# Altium footprint library UltraZohm_Analog_BreakoutBoard.PcbLib: 8 footprints
Each footprint in its own frame and in the unit in brackets; x right, y up, seen from the top. Pads: shape width x height; smd on the part's side, far side on the other; paste and mask are expansions set on the pad; w line width, h text height; cw(c..) or ccw(c..) is an arc to the next point about the centre after c.
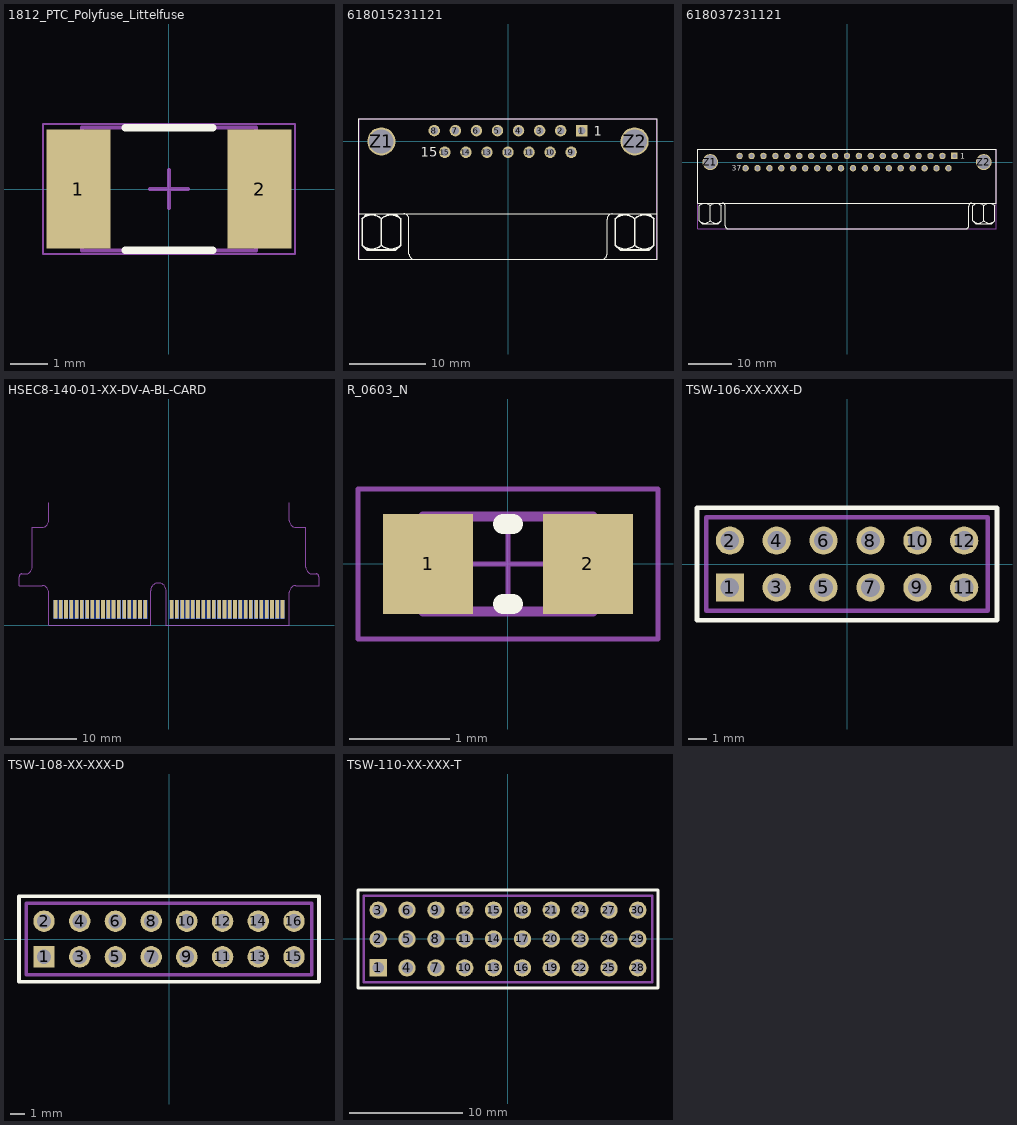
[diagram p0: the footprints below, top view; thin cyan lines are the x and y axes]

## 1812_PTC_Polyfuse_Littelfuse [mm] "Chip Fuse, 2-Leads, Body 4.6x3.24mm"
height 1.6
pads (2):
  rect 1.68x3.14 smd: 1(-2.39,0) 2(2.39,0)
Top Overlay:
  lines w0.2: -1.15,-1.62 1.15,-1.62 ; -1.15,1.62 1.15,1.62
Mechanical 5:
  lines w0.1: -2.3,-1.62 -2.3,1.62 2.3,1.62 2.3,-1.62 -2.3,-1.62
  text ".Designator" at -0.901,-0.725 h1.52
Mechanical 15:
  lines w0.05: -3.33,-1.72 3.33,-1.72 3.33,1.72 -3.33,1.72 -3.33,-1.72
  lines w0.1: -0.5,0 0.5,0 ; 0,-0.5 0,0.5
3D body "mf-msmf110_24x.stp": height 1.15, standoff 0, extent -2.3,-1.62 2.3,1.62

## 618015231121 [mm] "15 pins, right angled, 8.08mm, with hex screw"
height 12.5
pads (17):
  rect 1.5x1.5 hole 1: 1(9.695,1.42)
  round 1.5 hole 1: 2(6.925,1.42) 3(4.155,1.42) 4(1.385,1.42) 5(-1.385,1.42) 6(-4.155,1.42) 7(-6.925,1.42) 8(-9.695,1.42) 9(8.31,-1.42) 10(5.54,-1.42) 11(2.77,-1.42) 12(0,-1.42) 13(-2.77,-1.42) 14(-5.54,-1.42) 15(-8.31,-1.42)
  round 3.7 hole 3.2: Z1(-16.65,0) Z2(16.65,0)
Top Overlay:
  lines w0.127: -13.715,-9.505 cw(c-13.715,-10.2) -13.02,-10.2 -13.02,-14.8 ; -13.015,-14.805 ccw(c-12.32,-14.805) -12.32,-15.5 12.32,-15.5 ccw(c12.32,-14.805) 13.015,-14.805 ; 13.02,-14.8 13.02,-10.2 cw(c13.715,-10.2) 13.715,-9.505 ; -19.6,-15.5 -19.6,-9.5 ; -19.6,-15.5 19.6,-15.5 ; -19.6,-15.5 -19.6,3 ; -19.6,-15.5 19.6,-15.5 ; -19.6,-9.5 19.6,-9.5 ; -19.6,-9.5 -19.6,3 ; -19.6,3 19.6,3 ; -19.6,3 19.6,3 ; 19.6,-15.5 19.6,-9.5 ; 19.6,-15.5 19.6,3 ; 19.6,-9.5 19.6,3
  lines w0.2: -19.192,-13.635 -18.557,-14.27 -14.747,-14.27 -14.112,-13.635 -14.112,-10.179 -14.747,-9.544 ; -19.192,-13.62 -19.192,-10.179 -18.557,-9.544 ; -19.192,-12.568 -19.192,-12.356 ; -16.652,-13.62 -16.652,-10.179 ; 14.108,-13.635 14.743,-14.27 18.553,-14.27 19.188,-13.635 19.188,-10.179 18.553,-9.544 ; 14.108,-13.62 14.108,-10.179 14.743,-9.544 ; 14.108,-12.568 14.108,-12.356 ; 16.648,-13.62 16.648,-10.179
  lines w0.203: -19.194,-10.177 cw(c-17.922,-11.449) -16.65,-10.177 ; -19.192,-13.62 ccw(c-17.92,-12.348) -16.648,-13.62 ; -16.657,-13.62 ccw(c-15.384,-12.348) -14.112,-13.62 ; -16.654,-10.177 cw(c-15.382,-11.449) -14.11,-10.177 ; 14.106,-10.177 cw(c15.378,-11.449) 16.65,-10.177 ; 14.108,-13.62 ccw(c15.38,-12.348) 16.652,-13.62 ; 16.643,-13.62 ccw(c17.916,-12.348) 19.188,-13.62 ; 16.646,-10.177 cw(c17.918,-11.449) 19.19,-10.177
  text "15" at -11.5,-2 h1.27
  text "1" at 11.25,0.75 h1.27
Mechanical 5:
  lines w0.127: -19.558,-15.5 -19.558,3 19.558,3 19.558,-15.5 -19.558,-15.5
  text ".Designator" at -1.028,-6.186 h1.52
3D body "618015231121.stp": height 12.51, standoff -3.17, extent -19.6,-15.5 19.6,3

## 618037231121 [mm] "37 pins, right angled, 8.08mm, with hex screw"
height 12.5
pads (39):
  rect 1.5x1.5 hole 1: 1(24.93,1.42)
  round 1.5 hole 1: 2(22.16,1.42) 3(19.39,1.42) 4(16.62,1.42) 5(13.85,1.42) 6(11.08,1.42) 7(8.31,1.42) 8(5.54,1.42) 9(2.77,1.42) 10(0,1.42) 11(-2.77,1.42) 12(-5.54,1.42) 13(-8.31,1.42) 14(-11.08,1.42) 15(-13.85,1.42) 16(-16.62,1.42) 17(-19.39,1.42) 18(-22.16,1.42) 19(-24.93,1.42) 20(23.545,-1.42) 21(20.775,-1.42) 22(18.005,-1.42) 23(15.235,-1.42) 24(12.465,-1.42) 25(9.695,-1.42) 26(6.925,-1.42) 27(4.155,-1.42) 28(1.385,-1.42) 29(-1.385,-1.42) 30(-4.155,-1.42) 31(-6.925,-1.42) 32(-9.695,-1.42) 33(-12.465,-1.42) 34(-15.235,-1.42) 35(-18.005,-1.42) 36(-20.775,-1.42) 37(-23.545,-1.42)
  round 3.7 hole 3.2: Z1(-31.75,0) Z2(31.75,0)
Top Overlay:
  lines w0.127: -28.95,-9.505 cw(c-28.95,-10.2) -28.255,-10.2 -28.255,-14.8 ; -28.25,-14.805 ccw(c-27.555,-14.805) -27.555,-15.5 27.555,-15.5 ccw(c27.555,-14.805) 28.25,-14.805 ; 28.255,-14.8 28.255,-10.2 cw(c28.95,-10.2) 28.95,-9.505 ; -34.7,-9.5 34.7,-9.5 34.7,3 -34.7,3 -34.7,-9.5
  lines w0.2: -34.292,-13.635 -33.657,-14.27 -29.847,-14.27 -29.212,-13.635 -29.212,-10.179 -29.847,-9.544 ; -34.292,-13.62 -34.292,-10.179 -33.657,-9.544 ; -34.292,-12.568 -34.292,-12.356 ; -31.752,-13.62 -31.752,-10.179 ; 29.208,-13.635 29.843,-14.27 33.653,-14.27 34.288,-13.635 34.288,-10.179 33.653,-9.544 ; 29.208,-13.62 29.208,-10.179 29.843,-9.544 ; 29.208,-12.568 29.208,-12.356 ; 31.748,-13.62 31.748,-10.179
  lines w0.203: -34.294,-10.177 cw(c-33.022,-11.449) -31.75,-10.177 ; -34.292,-13.62 ccw(c-33.02,-12.348) -31.748,-13.62 ; -31.757,-13.62 ccw(c-30.484,-12.348) -29.212,-13.62 ; -31.754,-10.177 cw(c-30.482,-11.449) -29.21,-10.177 ; 29.206,-10.177 cw(c30.478,-11.449) 31.75,-10.177 ; 29.208,-13.62 ccw(c30.48,-12.348) 31.752,-13.62 ; 31.743,-13.62 ccw(c33.016,-12.348) 34.288,-13.62 ; 31.746,-10.177 cw(c33.018,-11.449) 34.29,-10.177
  text "37" at -26.75,-2 h1.27
  text "1" at 26.25,0.75 h1.27
Mechanical 5:
  lines w0.127: -34.7,-15.5 34.7,-15.5 34.7,3 -34.7,3 -34.7,-15.5
  text ".Designator" at -2.044,-6.313 h1.52
3D body "618037231121.stp": height 12.51, standoff -3.17, extent -34.7,-15.5 34.7,3

## HSEC8-140-01-XX-DV-A-BL-CARD [mm]
height 0.8
pads (80):
  rect 0.55x2.8 smd far side mask+0.05: 1(17.2,2.4) 3(16.4,2.4) 5(15.6,2.4) 7(14.8,2.4) 9(14,2.4) 11(13.2,2.4) 13(12.4,2.4) 15(11.6,2.4) 17(10.8,2.4) 19(10,2.4) 21(9.2,2.4) 23(8.4,2.4) 25(7.6,2.4) 27(6.8,2.4) 29(6,2.4) 31(5.2,2.4) 33(4.4,2.4) 35(3.6,2.4) 37(2.8,2.4) 39(2,2.4) 41(1.2,2.4) 43(0.4,2.4) 45(-3.6,2.4) 47(-4.4,2.4) 49(-5.2,2.4) 51(-6,2.4) 53(-6.8,2.4) 55(-7.6,2.4) 57(-8.4,2.4) 59(-9.2,2.4) 61(-10,2.4) 63(-10.8,2.4) 65(-11.6,2.4) 67(-12.4,2.4) 69(-13.2,2.4) 71(-14,2.4) 73(-14.8,2.4) 75(-15.6,2.4) 77(-16.4,2.4) 79(-17.2,2.4)
  rect 0.55x2.8 smd mask+0.05: 2(17.2,2.4) 4(16.4,2.4) 6(15.6,2.4) 8(14.8,2.4) 10(14,2.4) 12(13.2,2.4) 14(12.4,2.4) 16(11.6,2.4) 18(10.8,2.4) 20(10,2.4) 22(9.2,2.4) 24(8.4,2.4) 26(7.6,2.4) 28(6.8,2.4) 30(6,2.4) 32(5.2,2.4) 34(4.4,2.4) 36(3.6,2.4) 38(2.8,2.4) 40(2,2.4) 42(1.2,2.4) 44(0.4,2.4) 46(-3.6,2.4) 48(-4.4,2.4) 50(-5.2,2.4) 52(-6,2.4) 54(-6.8,2.4) 56(-7.6,2.4) 58(-8.4,2.4) 60(-9.2,2.4) 62(-10,2.4) 64(-10.8,2.4) 66(-11.6,2.4) 68(-12.4,2.4) 70(-13.2,2.4) 72(-14,2.4) 74(-14.8,2.4) 76(-15.6,2.4) 78(-16.4,2.4) 80(-17.2,2.4)
Mechanical 16:
  lines w0.025: -18.225,18.566 -18.225,15.84 cw(c-19.225,15.84) -19.225,14.84 -20.725,14.84 -20.725,8.78 cw(c-21.725,8.78) -21.725,7.78 -22.325,7.78 ccw(c-22.325,7.38) -22.725,7.38 -22.725,6 -19.225,6 cw(c-19.225,5) -18.225,5 -18.225,0.779 -18.225,0 -2.8,0 -2.8,0.779 -2.8,5.2 cw(c-1.6,5.2) -0.4,5.2 -0.4,0.779 -0.4,0 18.225,0 18.225,0.779 18.225,5 cw(c19.225,5) 19.225,6 22.725,6 22.725,7.38 ccw(c22.325,7.38) 22.325,7.78 21.725,7.78 cw(c21.725,8.78) 20.725,8.78 20.725,14.84 19.225,14.84 cw(c19.225,15.84) 18.225,15.84 18.225,18.566

## R_0603_N [mm] "SMD Resistor, Body 1.6x0.8mm, IPC Medium Density"
height 0.6
pads (2):
  rect 0.9x1 smd: 1(-0.8,0) 2(0.8,0)
Top Overlay:
  lines w0.2: -0.05,-0.4 0.05,-0.4 ; -0.05,0.4 0.05,0.4
Mechanical 5:
  lines w0.1: -0.85,-0.475 -0.85,0.475 0.85,0.475 0.85,-0.475 -0.85,-0.475
  text ".Designator" at -1,0.8 h0.76
Mechanical 15:
  lines w0.05: -0.475,0 0.475,0 ; 0,-0.475 0,0.475 ; -1.5,-0.75 -1.5,0.75 1.5,0.75 1.5,-0.75 -1.5,-0.75
3D body: height 0.6, standoff 0, extent 0.581,-0.474 0.85,0.475
3D body: height 0.6, standoff 0, extent -0.58,-0.474 0.581,0.475
3D body: height 0.6, standoff 0, extent -0.849,-0.474 -0.58,0.475

## TSW-106-XX-XXX-D [mil] "Pinheader, 2.54mm Pitch"
pads (12):
  rect 60x60 hole 40 mask+3: 1(-250,-50)
  round 60 hole 40 mask+3: 2(-250,50) 3(-150,-50) 4(-150,50) 5(-50,-50) 6(-50,50) 7(50,-50) 8(50,50) 9(150,-50) 10(150,50) 11(250,-50) 12(250,50)
Top Overlay:
  lines w10: -320,-120 320,-120 320,120 -320,120 -320,-120
Mechanical 5:
  lines w10: -300,-100 300,-100 300,100 -300,100 -300,-100
  text ".Designator" at 5.43,-20 h30
3D body "TSW-106-07-F-D.stp": height 330, standoff -100, extent -300,-100 300,100

## TSW-108-XX-XXX-D [mil] "Pinheader, 2.54mm Pitch"
pads (16):
  rect 60x60 hole 40 mask+3: 1(-350,-50)
  round 60 hole 40 mask+3: 2(-350,50) 3(-250,-50) 4(-250,50) 5(-150,-50) 6(-150,50) 7(-50,-50) 8(-50,50) 9(50,-50) 10(50,50) 11(150,-50) 12(150,50) 13(250,-50) 14(250,50) 15(350,-50) 16(350,50)
Top Overlay:
  lines w10: -420,-120 -420,120 420,120 420,-120 -420,-120
Mechanical 5:
  lines w10: -400,-100 -400,100 400,100 400,-100 -400,-100
  text ".Designator" at 5.43,-20 h30
3D body "TSW-108-07-F-D.stp": height 330, standoff -100, extent -400,-100 400,100

## TSW-110-XX-XXX-T [mil] "Pinheader, 2.54mm Pitch"
pads (30):
  rect 60x60 hole 40 mask+3: 1(-450,-100)
  round 60 hole 40 mask+3: 2(-450,0) 3(-450,100) 4(-350,-100) 5(-350,0) 6(-350,100) 7(-250,-100) 8(-250,0) 9(-250,100) 10(-150,-100) 11(-150,0) 12(-150,100) 13(-50,-100) 14(-50,0) 15(-50,100) 16(50,-100) 17(50,0) 18(50,100) 19(150,-100) 20(150,0) 21(150,100) 22(250,-100) 23(250,0) 24(250,100) 25(350,-100) 26(350,0) 27(350,100) 28(450,-100) 29(450,0) 30(450,100)
Top Overlay:
  lines w10: -520,-170 -520,170 520,170 520,-170 -520,-170
Mechanical 5:
  lines w10: -500,-150 500,-150 500,150 -500,150 -500,-150
  text ".Designator" at 5.43,-20 h30
3D body "TSW-110-07-F-T.stp": height 330, standoff -100, extent -500,-150 500,150